# EAGLE library part POWERMODULE_SMD (library PowerModule)
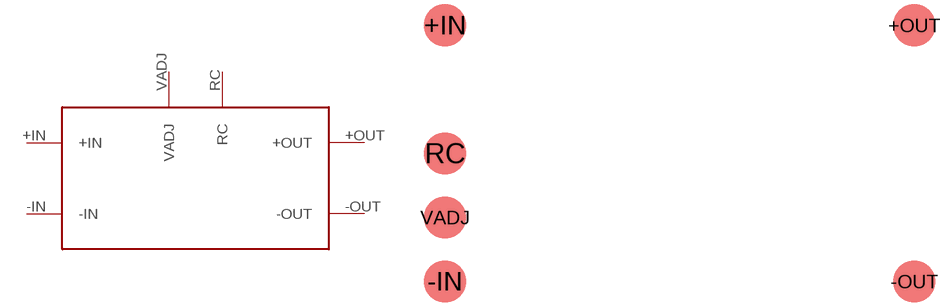
[diagram p0: symbol with the pads of POWERMODULE_FOOTPRINT; footprint POWERMODULE_FOOTPRINT]

Designator prefix -

## POWERMODULE_SMD  [POWERMODULE_FOOTPRINT]
+IN  +IN
+OUT  +OUT
-IN  -IN
-OUT  -OUT
RC  RC
VADJ  VADJ

## Footprint POWERMODULE_FOOTPRINT (pad centres in mm)
smd 2.5 x 2.5: +IN 0,-4.31; +OUT 27.94,-4.31; -IN 0,-19.55; -OUT 27.94,-19.55; RC 0,-11.93; VADJ 0,-15.74